# Altium schematic symbol library ACPL-C87A-500E.SchLib: 1 symbol
Pins are listed as number, name and electrical type; pins without a type are passive.

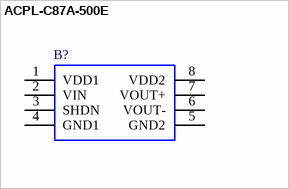
[diagram p0: symbol ACPL-C87A-500E]

## ACPL-C87A-500E
designator B?
Broadcom, ACPL-C87A-500E Optocoupler, Surface Mount, 8-Pin SO; Manufacturer_Name: Avago Technologies; Geometry.Height: 3.607mm; Manufacturer_Part_Number: ACPL-C87A-500E; Mouser Part Number: 630-ACPL-C87A-500E; Mouser Price/Stock: https://www.mouser.co.uk/ProductDetail/Broadcom-Avago/ACPL-C87A-500E?qs=mhB89zxvawnihD62lh78rg%3D%3D; Arrow Part Number: *; Arrow Price/Stock: *; Mouser Testing Part Number: *; Mouser Testing Price/Stock: *; Datasheet Link: https://docs.broadcom.com/docs/AV02-3563EN
footprint SOIC127P1150X361-8N
pins: 1 VDD1, 2 VIN, 3 SHDN, 4 GND1, 5 GND2, 6 VOUT-, 7 VOUT+, 8 VDD2